# Altium schematic symbol library CM4.SchLib: 61 symbols (part 1 of 2)
Pins are listed as number, name and electrical type; pins without a type are passive.

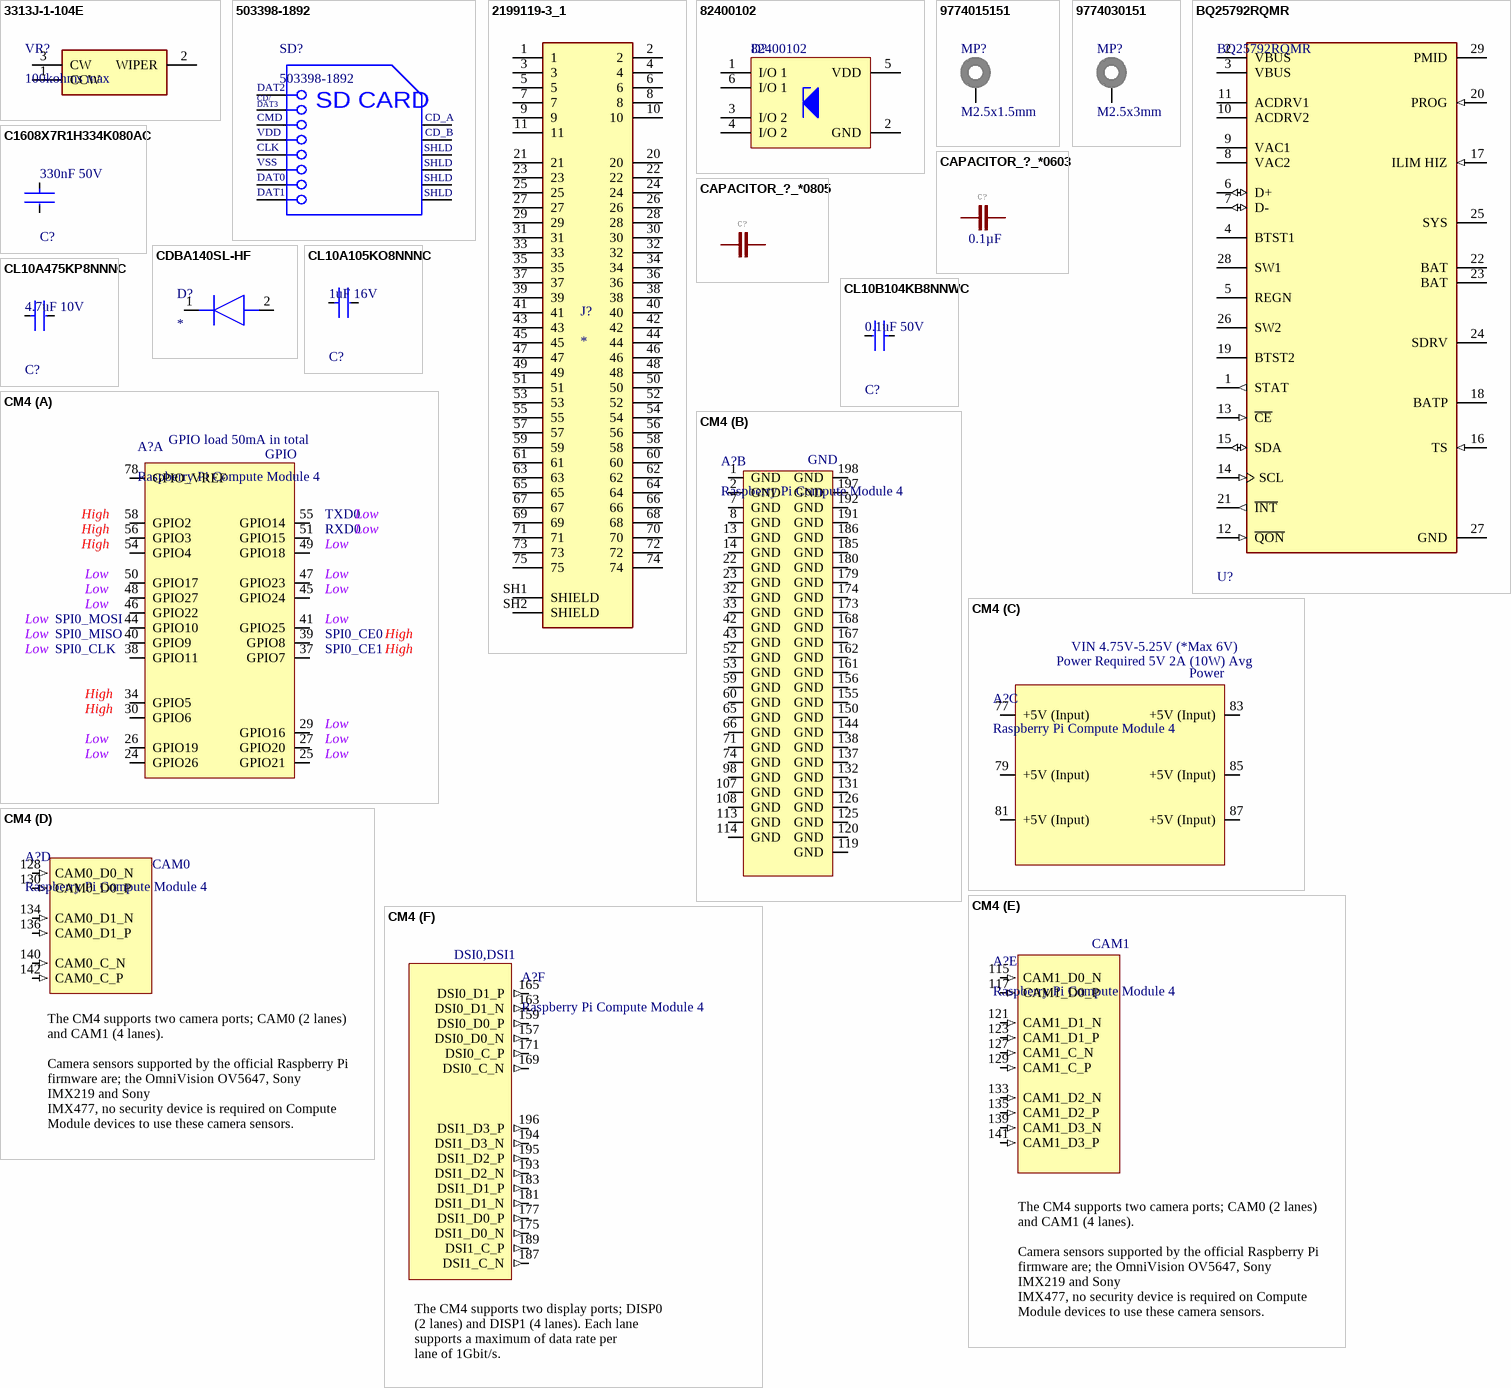
[diagram p0: symbols 3313J-1-104E to CM4]

## 3313J-1-104E
designator VR?, comment 100kohms max
TRIMMER 100K OHM 0.5W GW TOP ADJ; Manufacturer_Name: Bourns; Manufacturer_Part_Number: 3313J-1-104E; Datasheet Link: https://componentsearchengine.com/Datasheets/1/3313J-1-104E.pdf; Height: 2.2mm; Mouser Part Number: 652-3313J-1-104E; Mouser Price/Stock: https://www.mouser.co.uk/ProductDetail/Bourns/3313J-1-104E?qs=l1PtJIY2wTB7JQHwvfVVyQ%3D%3D; Arrow Part Number: 3313J-1-104E; Arrow Price/Stock: https://www.arrow.com/en/products/3313j-1-104e/bourns?region=nac
footprint 3313J1104E
pins: 1 CCW, 2 WIPER, 3 CW

## 503398-1892
designator SD?
Micro SD Connector, Pitch 1.1 mm, 8 Position, Height 1.4 mm, -25 to 85 degC, RoHS, Tape and Reel; Manufacturer: Molex; Voltage Rating: 10VAC/DC; Current Rating: 500mA; Manufacturer URL: http://www.molex.com/; Package Reference: 503398-1892; Packaging: Reel; RoHS: Details; Brand: Molex; Datasheet URL: http://www.molex.com/pdm_docs/sd/5033981892_sd.pdf; Mounting Technology: SurfaceMount; Factory Pack Quantity: 2400; Datasheet Version: Rev. E, 04/2006; Series: 503398; Product Category: MemoryCardConnectors; Package Description: Micro SD Connector, Pitch 1.1 mm, 8 Position, Height 1.4 mm
footprint MOLX-503398-1892_V (CONN, 8-Leads, Body 14.05x13.2mm, Pitch 1.1mm)
pins: 1 DAT2, 2 CD/DAT3, 3 CMD, 4 VDD, 5 CLK, 6 VSS, 7 DAT0, 8 DAT1, 9 CD_A, 10 CD_B, 11 SHLD, 12 SHLD, 13 SHLD, 14 SHLD
text: CD/; DAT3; SD CARD

## 2199119-3_1
designator J?
Connector, Backplane, Housing, Receptacle, 67 Position, 2row; MP: 2199119-3; MF: TE Connectivity; Check_prices: https://www.snapeda.com/parts/2199119-3/TE+Connectivity+AMP+Connectors/view-part/?ref=eda; Value: *; Purchase-URL: https://pricing.snapeda.com/search/part/2199119-3/?ref=eda; SnapEDA_Link: https://www.snapeda.com/parts/2199119-3/TE+Connectivity+AMP+Connectors/view-part/?ref=snap; Package: None; Digi-Key_Part_Number: A115899TR-ND; EU_RoHS_Compliance: Compliant
footprint TE_2199119-3
pins: 1, 2, 3, 4, 5, 6, 7, 8, 9, 10, 11, 20, 21, 22, 23, 24, 25, 26, 27, 28, 29, 30, 31, 32, 33, 34, 35, 36, 37, 38, 39, 40, 41, 42, 43, 44, 45, 46, 47, 48, 49, 50, 51, 52, 53, 54, 55, 56, 57, 58, 59, 60, 61, 62, 63, 64, 65, 66, 67, 68, 69, 70, 71, 72, 73, 74, 75, SH1 SHIELD, SH2 SHIELD

## 82400102
designator D?
TVS DIODE 5VWM 7.7VC SOT23-6L; NexarPartId: 22862942; MFR: Würth Elektronik; Max Reverse Leakage Current: 5A; Test Current: 1mA; Number of Channels: 2; Leakage Current: 5µA; Min Breakdown Voltage: 6V; Working Voltage: 5V; Direction: Unidirectional; Max Surge Current: 6A; Element Configuration: Dual; ESD Protection: Yes; Capacitance: 2pF; Forward Voltage: 800mV; Polarity: Bidirectional; Clamping Voltage: 7.7V; RoHS: Compliant; Number of Bidirectional Channels: 2; Mount: Surface Mount; Number of Pins: 6; Case/Package: SOT-23; Length: 2.9mm; Min Operating Temperature: -55°C; REACH SVHC: Unknown; Max Operating Temperature: 125°C; Max Breakdown Voltage: 6V; Reverse Standoff Voltage: 5V; Width: 2.8mm; Breakdown Voltage: 6V; Height: 1.16mm; Termination: SMD/SMT; Power Line Protection: Yes; Operating Supply Voltage: 6V; Packaging: Digi-Reel®; Peak Pulse Current: 6A; MPN: 82400102
footprint WE-TVS_SOT23-6L (TVS Diode, package SOT23-6L)
pins: 1 I/O 1, 2 GND, 3 I/O 2, 4 I/O 2, 5 VDD, 6 I/O 1

## 9774015151
designator MP?, comment M2.5x1.5mm
WA-SMSI SMT Steel Spacer, M2.5 Thread Internal, OD 5.1mm, M2.5x1.5mm; Manufacturer Part Number: 9774015151; Manufacturer: Wurth Elektronik; Inner Diameter: 3.5mm; Surface: Tin; ComponentLink1Description: Manufacturer; ComponentLink1URL: http://www.we-online.de; ComponentLink2Description: Datasheet; ComponentLink2URL: https://www.we-online.com/catalog/datasheet/9774015151.pdf; Mounting Technology: SMT; Packaging: Bulk; Length: 1.5mm; Inner Thread Length: -; Operating Temperature: -55 to +150degC; Outer Diameter: 5.1mm; Published Date: April 2020; Material: Steel; Thread: M2.5
footprint 9774015151 (SMT Steel Spacer with internal Thread M2.5, height 1.5mm)
pins: 1

## 9774030151
designator MP?, comment M2.5x3mm
WA-SMSI SMT Steel Spacer, M2.5 Thread Internal, OD 5.1mm, M2.5x3mm; Manufacturer Part Number: 9774030151; Manufacturer: Wurth Elektronik; Inner Diameter: 3.5mm; Surface: Tin; ComponentLink1Description: Manufacturer; ComponentLink1URL: http://www.we-online.de; ComponentLink2Description: Datasheet; ComponentLink2URL: https://www.we-online.com/catalog/datasheet/9774030151.pdf; Mounting Technology: SMT; Packaging: Bulk; Length: 3mm; Inner Thread Length: -; Operating Temperature: -55 to +150degC; Outer Diameter: 5.1mm; Published Date: April 2020; Material: Steel; Thread: M2.5
footprint 9774030151 (SMT Steel Spacer with internal Thread M2.5, height 3mm)
pins: 1

## BQ25792RQMR
designator U?
Power Supply Management Circuit, Adjustable, 1 Channel, 3.4, PQCC29; Manufacturer: Texas Instruments; RoHS Compliant: Yes; Supplier: Mouser; Supplier Part Number: 595-BQ25792RQMR; RoHS: Yes; Category: Battery Management; Stock: 1625; Pricing: 1=6.18, 10=5.59, 25=5.33, 50=5.33, 100=4.62, 250=4.42, 500=4.03, 1000=3.51, 3000=3.32, 6000=3.31, 10000=3.32 (USD); Manufacturer Part Number: BQ25792RQMR
footprint FP-RQM0029A-MFG
pins: 1 STAT (out), 2 VBUS (power), 3 VBUS (power), 4 BTST1 (power), 5 REGN (power), 6 D+ (io), 7 D- (io), 8 VAC2 (power), 9 VAC1 (power), 10 ACDRV2 (power), 11 ACDRV1 (power), 12 ~{QON} (in), 13 ~{CE} (in), 14 SCL (in), 15 SDA (io), 16 TS (in), 17 ILIM HIZ (in), 18 BATP (power), 19 BTST2 (power), 20 PROG (in), 21 ~{INT} (out), 22 BAT (power), 23 BAT (power), 24 SDRV (power), 25 SYS (power), 26 SW2 (power), 27 GND (power), 28 SW1 (power), 29 PMID (power)

## C1608X7R1H334K080AC
designator C?, comment 330nF 50V
CAP CER 0.33UF 50V X7R 0603; MPN: C1608X7R1H334K080AC; MFR: TDK Corporation; Tolerance: 10%; Dielectric Material: Ceramic; Capacitance: 330nF; Case Code (Imperial): 0603; Case Code (Metric): 1608; Dielectric: X7R; Length: 1.6mm; Construction: Flat; Resistor Type: Ceramic; Mount: Surface Mount; Voltage Rating: 50V; Packaging: Tape and Reel; Series: C; Case/Package: 0603; Lead Free: Lead Free; Voltage: 50V; REACH SVHC: No SVHC; Height: 0.8mm; Weight: 7.1E-05oz; Termination: SMD/SMT; Max Operating Temperature: 125°C; RoHS Compliant: Yes; Min Operating Temperature: -55°C; Depth: 0.8mm; Package Quantity: 1; Thickness: 0.037inch; Voltage Rating (DC): 50V; Width: 0.031inch
footprint CAPACITOR_0603 (Chip Capacitor, 2-Leads, Body 1.60x0.80mm, IPC Medium Density)
pins: 1, 2

## CAPACITOR_?_*0603
designator C?, comment CAPACITANCE: 0.1µF  (hidden comment: Capacitor, Non-Polarized  VJ...1BC Series Datasheet  Samsung Datasheet  Walsin Datasheet  GRM188R61A226ME15D  GRM188R61E106MA73D  885012006013  2220Y6300105KXTWS2  Yageo Class 2, X5R  TDK C Series  AVX Automotive MLCC   KEMET X7R Series  Kyocera AVX  GRM21BR61H  C1812W104KDRACTU)
MPN: CC0603KRX7R0BB104; GateName_1: G$1; DeviceName: 0603; DeviceSetName: CAPACITOR_?_*; DKPN: 311-1523-1-ND; MOPN: 603-CC603KRX7R0BB104; TOLERANCE: 10%; VOLTAGE: 100V; SymbolName_1: CAPACITOR; LibraryName: HyTechDevices; Package: 0603-CAP; MANUFACTURER: Yageo
footprint CAPACITOR_0603 (Chip Capacitor, 2-Leads, Body 1.60x0.80mm, IPC Medium Density)
pins: 1, 2

## CAPACITOR_?_*0805
designator C?, comment Capacitor, Non-Polarized  VJ...1BC Series Datasheet  Samsung Datasheet  Walsin Datasheet  GRM188R61A226ME15D  GRM188R61E106MA73D  885012006013  2220Y6300105KXTWS2  Yageo Class 2, X5R  TDK C Series  AVX Automotive MLCC   KEMET X7R Series  Kyocera AVX  GRM21BR61H  C1812W104KDRACTU  (value not drawn)
MPN: C0805C224K1RACTU; MPN: CC0805MKX5R8BB226; MANUFACTURER: Murata; MPN: GRM21BR61H106KE43L; GateName_1: G$1; DeviceName: 0805; DeviceSetName: CAPACITOR_?_*; CAPACITANCE: 0.22µF; DKPN: 399-8049-1-ND; MOPN: 80-C0805C224K1R; TOLERANCE: 10%; VOLTAGE: 100V; CAPACITANCE: 22µF; DKPN: 311-1903-1-ND; MOPN: 603-CC805MKX5R8BB226; TOLERANCE: 20%; VOLTAGE: 25V; CAPACITANCE: 10uF; DKPN: 490-18663-2-ND; MOPN: 81-GRM21BR61H106KE3L; VOLTAGE: 50V; SymbolName_1: CAPACITOR; LibraryName: HyTechDevices; Package: 0805-CAP; MANUFACTURER: KEMET; MANUFACTURER: Yageo
footprint 0805-CAP
pins: 1, 2

## CDBA140SL-HF
designator D?
DIODE SCHOTTKY 40V 1.4A DO214AC; Manufacturer_Name: Comchip Technology; Manufacturer_Part_Number: CDBA140SL-HF; Datasheet Link: http://www.mouser.com/ds/2/80/CDBA140SL-HF RevC729463-766397.pdf; Height: 2.5mm; Mouser Part Number: 750-CDBA140SL-HF; Mouser Price/Stock: https://www.mouser.co.uk/ProductDetail/Comchip-Technology/CDBA140SL-HF?qs=2qJf6qQ4IOIs6CdtgpGzGA%3D%3D; Arrow Part Number: CDBA140SL-HF; Arrow Price/Stock: https://www.arrow.com/en/products/cdba140sl-hf/comchip-technology
footprint DIOM5225X250N
pins: 1 K, 2 A

## CL10A105KO8NNNC
designator C?, comment 1uF 16V
CAP CER 1UF 16V X5R 0603; MFR: Samsung Electro-Mechanics; MPN: CL10A105KO8NNNC
footprint CAPACITOR_0603 (Chip Capacitor, 2-Leads, Body 1.60x0.80mm, IPC Medium Density)
pins: 1, 2

## CL10A475KP8NNNC
designator C?, comment 4.7uF 10V
CAP CER 4.7UF 10V X5R 0603; MPN: CL10A475KP8NNNC; MFR: Samsung Electro-Mechanics
footprint CAPACITOR_0603 (Chip Capacitor, 2-Leads, Body 1.60x0.80mm, IPC Medium Density)
pins: 1, 2

## CL10B104KB8NNWC
designator C?, comment 0.1uF 50V
CAP CER 0.1UF 50V X7R 0603; MFR: Samsung Electro-Mechanics; MPN: CL10B104KB8NNWC
footprint CAPACITOR_0603 (Chip Capacitor, 2-Leads, Body 1.60x0.80mm, IPC Medium Density)
pins: 1, 2

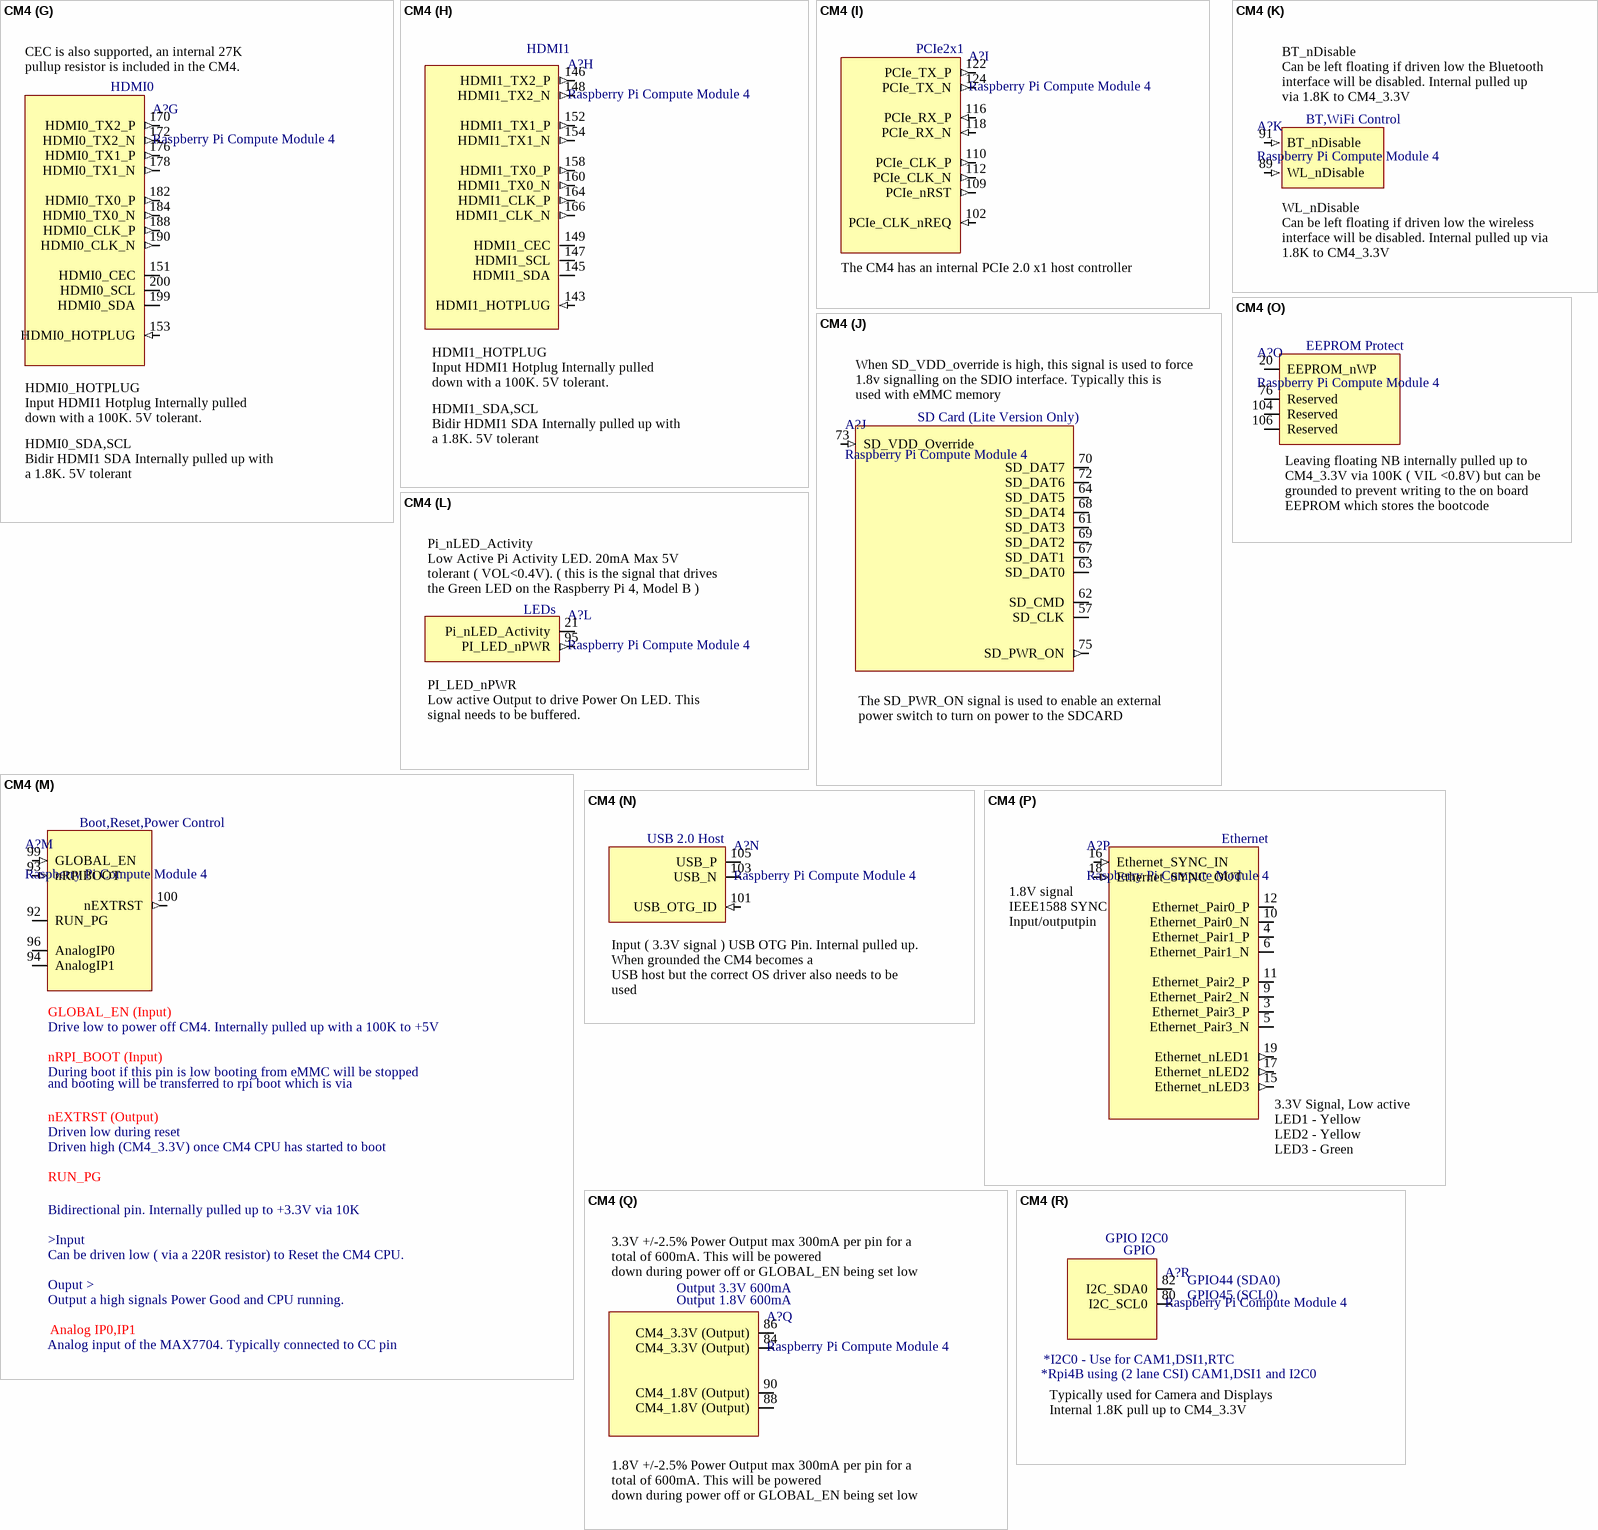
[diagram p1: symbol CM4]

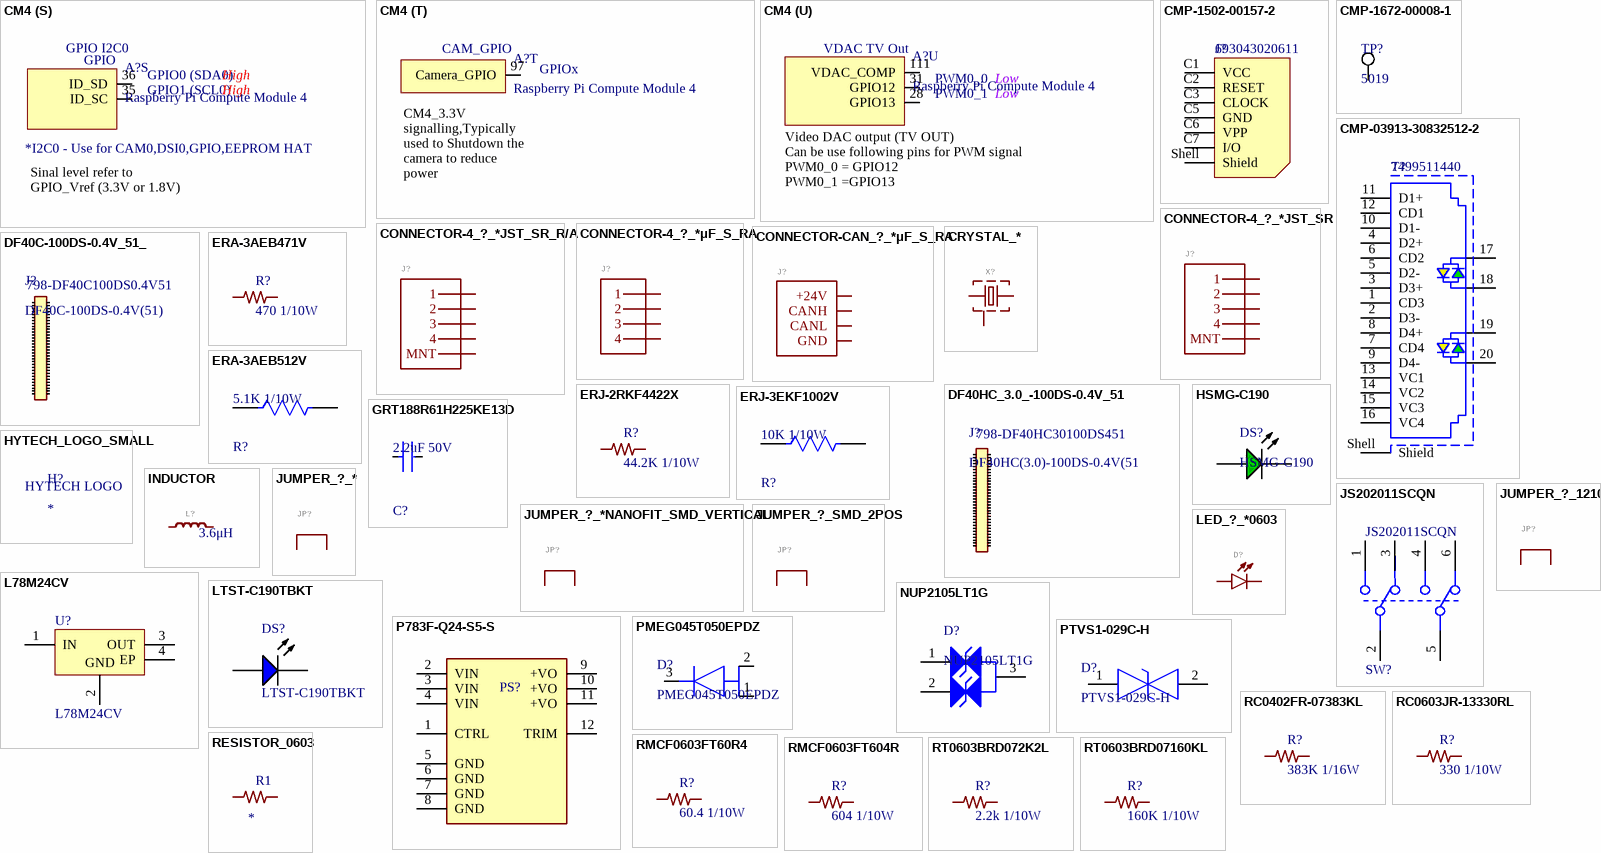
[diagram p2: symbols CM4 to RT0603BRD07160KL]

## CM4
designator A?, comment Raspberry Pi Compute Module 4  (no BOM)
Raspberry Pi Compute Module 4 by Amornthep Phunsin
footprint CM4-F40C-100DS-0.4v_1.5mm_0mm (DF40C-100DS-0.4v by Amornthep Phunsin)
footprint CM4-DF40HC(3.0)-100DS-0.4v_3mm_1.5mm (DF40HC(3.0)-100DS-0.4v)
part A pins: 24 GPIO26 "Pin37", 25 GPIO21 "Pin40", 26 GPIO19 "Pin35", 27 GPIO20 "Pin38", 29 GPIO16 "Pin36", 30 GPIO6 "Pin31", 34 GPIO5 "Pin29", 37 GPIO7 "Pin26 SPI0_CE1", 38 GPIO11 "Pin23 SPI0_CLK", 39 GPIO8 "Pin24 SPI0_CE0", 40 GPIO9 "Pin21 SPI0_MISO", 41 GPIO25 "Pin22", 44 GPIO10 "Pin19 SPI0_MOSI", 45 GPIO24 "Pin18", 46 GPIO22 "Pin15", 47 GPIO23 "Pin16", 48 GPIO27 "Pin13", 49 GPIO18 "Pin12", 50 GPIO17 "Pin11", 51 GPIO15 "Pin10 RXD0", 54 GPIO4 "Pin7 GPCLK0", 55 GPIO14 "Pin8 TXD0", 56 GPIO3 "Pin5 SCL1 Internal 1.8K pull up", 58 GPIO2 "Pin3 SDA1 Internal 1.8K pull up", 78 GPIO_VREF (power) "Must be connected to CM4_3.3V ( pins 84 and 86 ) for 3.3V GPIO or CM4_1.8V ( pins 88 and 90) for 1.8V GPIO. This pin cannot be floating or connected to ground"
part B pins: 1 GND (power) "Ground (0V)", 2 GND (power) "Ground (0V)", 7 GND (power) "Ground (0V)", 8 GND (power) "Ground (0V)", 13 GND (power) "Ground (0V)", 14 GND (power) "Ground (0V)", 22 GND (power) "Ground (0V)", 23 GND (power) "Ground (0V)", 32 GND (power) "Ground (0V)", 33 GND (power) "Ground (0V)", 42 GND (power) "Ground (0V)", 43 GND (power) "Ground (0V)", 52 GND (power) "Ground (0V)", 53 GND (power) "Ground (0V)", 59 GND (power) "Ground (0V)", 60 GND (power) "Ground (0V)", 65 GND (power) "Ground (0V)", 66 GND (power) "Ground (0V)", 71 GND (power) "Ground (0V)", 74 GND (power) "Ground (0V)", 98 GND (power) "Ground (0V)", 107 GND (power) "Ground (0V)", 108 GND (power) "Ground (0V)", 113 GND (power) "Ground (0V)", 114 GND (power) "Ground (0V)", 119 GND (power) "Ground (0V)", 120 GND (power) "Ground (0V)", 125 GND (power) "Ground (0V)", 126 GND (power) "Ground (0V)", 131 GND (power) "Ground (0V)", 132 GND (power) "Ground (0V)", 137 GND (power) "Ground (0V)", 138 GND (power) "Ground (0V)", 144 GND (power) "Ground (0V)", 150 GND (power) "Ground (0V)", 155 GND (power) "Ground (0V)", 156 GND (power) "Ground (0V)", 161 GND (power) "Ground (0V)", 162 GND (power) "Ground (0V)", 167 GND (power) "Ground (0V)", 168 GND (power) "Ground (0V)", 173 GND (power) "Ground (0V)", 174 GND (power) "Ground (0V)", 179 GND (power) "Ground (0V)", 180 GND (power) "Ground (0V)", 185 GND (power) "Ground (0V)", 186 GND (power) "Ground (0V)", 191 GND (power) "Ground (0V)", 192 GND (power) "Ground (0V)", 197 GND (power) "Ground (0V)", 198 GND (power) "Ground (0V)"
part C pins: 77 +5V (Input) (power) "4.75V-5.25V Main power input", 79 +5V (Input) (power) "4.75V-5.25V Main power input", 81 +5V (Input) (power) "4.75V-5.25V Main power input", 83 +5V (Input) (power) "4.75V-5.25V Main power input", 85 +5V (Input) (power) "4.75V-5.25V Main power input", 87 +5V (Input) (power) "4.75V-5.25V Main power input"
part D pins: 128 CAM0_D0_N (in) "Input Camera0 D0 Negative", 130 CAM0_D0_P (in) "Input Camera0 D0 Positive", 134 CAM0_D1_N (in) "Input Camera0 D1 Negative", 136 CAM0_D1_P (in) "Input Camera0 D1 Positive", 140 CAM0_C_N (in) "Input Camera0 Clock Negative", 142 CAM0_C_P (in) "Input Camera0 Clock Positive"
part E pins: 115 CAM1_D0_N (in) "Input Camera1 D0 Negative", 117 CAM1_D0_P (in) "Input Camera1 D0 Positive", 121 CAM1_D1_N (in) "Input Camera1 D1 Negative", 123 CAM1_D1_P (in) "Input Camera1 D1 Positive", 127 CAM1_C_N (in) "Input Camera1 Clock Negative", 129 CAM1_C_P (in) "Input Camera1 Clock Positive", 133 CAM1_D2_N (in) "Input Camera1 D2 Negative", 135 CAM1_D2_P (in) "Input Camera1 D2 Positive", 139 CAM1_D3_N (in) "Input Camera1 D3 Negative", 141 CAM1_D3_P (in) "Input Camera1 D3 Positive"
part F pins: 157 DSI0_D0_N (out) "Output Display0 D0 Negative", 159 DSI0_D0_P (out) "Output Display0 D0 Positive", 163 DSI0_D1_N (out) "Output Display0 D1 Negative", 165 DSI0_D1_P (out) "Output Display0 D1 Positive", 169 DSI0_C_N (out) "Output Display0 Clock Negative", 171 DSI0_C_P (out) "Output Display0 Clock Positive", 175 DSI1_D0_N (out) "Output Display1 D0 Negative", 177 DSI1_D0_P (out) "Output Display1 D0 Positive", 181 DSI1_D1_N (out) "Output Display1 D1 Negative", 183 DSI1_D1_P (out) "Output Display1 D1 Positive", 187 DSI1_C_N (out) "Output Display1 Clock Negative", 189 DSI1_C_P (out) "Output Display1 Clock Positive", 193 DSI1_D2_N (out) "Output Display1 D2 Negative", 194 DSI1_D3_N (out) "Output Display1 D3 Negative", 195 DSI1_D2_P (out) "Output Display1 D2 Positive", 196 DSI1_D3_P (out) "Output Display1 D3 Positive"
part G pins: 151 HDMI0_CEC (oc) "Input HDMI0 CEC Internally pulled up with a 27K. 5V tolerant (It can be connected directly to a HDMI connector a small amount of ESD protection is provided on the CM4 by an on board HDMI05-CL02F3)", 153 HDMI0_HOTPLUG (in) "Input HDMI0 Hotplug Internally pulled down 100K. 5V tolerant. (It can be connected directly to a HDMI connector a small amount of ESD protection is provided on the CM4 by an on board HDMI05-CL02F3)", 170 HDMI0_TX2_P (out) "Output HDMI0 TX2 Positive", 172 HDMI0_TX2_N (out) "Output HDMI0 TX2 Negative", 176 HDMI0_TX1_P (out) "Output HDMI0 TX1 Positive", 178 HDMI0_TX1_N (out) "Output HDMI0 TX1 Negative", 182 HDMI0_TX0_P (out) "Output HDMI0 TX0 Positive", 184 HDMI0_TX0_N (out) "Output HDMI0 TX0 Negative", 188 HDMI0_CLK_P (out) "Output HDMI0 Clock Positive", 190 HDMI0_CLK_N (out) "Output HDMI0 Clock Negative", 199 HDMI0_SDA (io) "Bidir HDMI0 SDA Internally pulled up with a 1.8K. 5V tolerant. (It can be connected directly to a HDMI connector a small amount of ESD protection is provided on the CM4 by an on board HDMI05-CL02F3)", 200 HDMI0_SCL (oc) "Bidir HDMI0 SCL Internally pulled up with a 1.8K. 5V tolerant. (It can be connected directly to a HDMI connector a small amount of ESD protection is provided on the CM4 by an on board HDMI05-CL02F3)"
part H pins: 143 HDMI1_HOTPLUG (in) "Input HDMI1 Hotplug Internally pulled down with a 100K. 5V tolerant. (It can be connected directly to a HDMI connector a small amount of ESD protection is provided on the CM4 by an on board HDMI05-CL02F3)", 145 HDMI1_SDA (io) "Bidir HDMI1 SDA Internally pulled up with a 1.8K. 5V tolerant. (It can be connected directly to a HDMI connector a small amount of ESD protection is provided on the CM4 by an on board HDMI05-CL02F3)", 146 HDMI1_TX2_P (out) "Output HDMI1 TX2 Positive", 147 HDMI1_SCL (oc) "Input HDMI1 SCL Internally pulled up with a 1.8K. 5V tolerant. (It can be connected directly to a HDMI connector a small amount of ESD protection is provided on the CM4 by an on board HDMI05-CL02F3)", 148 HDMI1_TX2_N (out) "Output HDMI1 TX2 Negative", 149 HDMI1_CEC (oc) "Input HDMI1 CEC Internally pulled up with a 27K. 5V tolerant. (It can be connected directly to a HDMI connector a small amount of ESD protection is provided on the CM4 by an on board HDMI05-CL02F3)", 152 HDMI1_TX1_P (out) "Output HDMI1 TX1 Positive", 154 HDMI1_TX1_N (out) "Output HDMI1 TX1 Negative", 158 HDMI1_TX0_P (out) "Output HDMI1 TX0 Positive", 160 HDMI1_TX0_N (out) "Output HDMI1 TX0 Negative", 164 HDMI1_CLK_P (out) "Output HDMI1 Clock Positive", 166 HDMI1_CLK_N (out) "Output HDMI1 Clock Negative"
part I pins: 102 PCIe_CLK_nREQ (in) "Input ( 3.3V signal) PCIe Clock request pin (low to request PCI clock). Internal pulled up", 109 PCIe_nRST (out) "Output (+3.3V signal) PCIe Reset Low active", 110 PCIe_CLK_P (out) "PCIe Clock Out Positive (100MHz) NB AC coupling Capacitor Included on CM4", 112 PCIe_CLK_N (out) "PCIe Clock Out Negative (100MHz) NB AC coupling Capacitor Included on CM4", 116 PCIe_RX_P (in) "Input PCIe GEN 2 RX Positive NB External AC coupling Capacitor required", 118 PCIe_RX_N (in) "Input PCIe GEN 2 RX Negative NB External AC coupling Capacitor required", 122 PCIe_TX_P (out) "Output PCIe GEN 2 TX Positive NB AC coupling Capacitor Included on CM4", 124 PCIe_TX_N (out) "Output PCIe GEN 2 TX Positive NB AC coupling Capacitor Included on CM4"
part J pins: 57 SD_CLK "SDCARD Clock signal (only available on CM4Lite)", 61 SD_DAT3 "SDCARD/eMMC Data3 signal (only available on CM4Lite)", 62 SD_CMD "SDCARD/eMMC Command signal (only available on CM4Lite)", 63 SD_DAT0 "SDCARD/eMMC Data0 signal (only available on CM4Lite)", 64 SD_DAT5 "SDCARD/eMMC Data5 signal (only available on CM4Lite)", 67 SD_DAT1 "SDCARD/eMMC Data1 signal (only available on CM4Lite)", 68 SD_DAT4 "SDCARD/eMMC Data4 signal (only available on CM4Lite)", 69 SD_DAT2 "SDCARD/eMMC Data2 signal (only available on CM4Lite)", 70 SD_DAT7 "SDCARD/eMMC Data7 signal (only available on CM4Lite)", 72 SD_DAT6 "SDCARD/eMMC Data6 signal (only available on CM4Lite)", 73 SD_VDD_Override (in) "Force SDCARD/eMMC interface to 1.8V signalling if set to 3.3V, otherwise leave unconnected. Typically only used if external eMMC is connected", 75 SD_PWR_ON (out) "Output to Power switch for SDCARD. CM4 sets this pin High (3.3V) to signal that Power to the SDCARD should be turned on. If booting from the SDCARD is required then a pullup should be fitted (only available on CM4Lite)"
part K pins: 89 WL_nDisable (in) "Can be left floating if driven low the wireless interface will be disabled. Internal pulled up via 1.8K to CM4_3.3V", 91 BT_nDisable (in) "Can be left floating if driven low the Bluetooth interface will be disabled. Internal pulled up via 1.8K to CM4_3.3V"
part L pins: 21 Pi_nLED_Activity (oc) "Low Active Pi Activity LED. 20mA Max 5V tolerant ( VOL<0.4V). ( this is the signal that drives the Green LED on the Raspberry Pi 4, Model B )", 95 PI_LED_nPWR (out) "Low active Output to drive Power On LED. This signal needs to be buffered."
part M pins: 92 RUN_PG "Bidirectional pin. Can be driven low ( via a 220R resistor) to Reset the CM4 CPU. As an Output a high signals Power Good and CPU running. Internally pulled up to +3.3V via 10K", 93 nRPIBOOT (in) "A low on this pin force booting from an RPI server ( e.g PC or a Raspberry Pi)  if not used leave floating. Internally pulled via 10K to +3.3V", 94 AnalogIP1 "Analogue input of the MAX7704. Typically connected to CC pin of Type C power connector", 96 AnalogIP0 "Analogue input of the MAX7704. Typically connected to CC pin of Type C power connector", 99 GLOBAL_EN (in) "Input. Drive low to power off CM4. Internally pulled up with a 100K to +5V", 100 nEXTRST (out) "Output Driven low during reset Driven high (CM4_3.3V) once CM4 CPU has started to boot"
part N pins: 101 USB_OTG_ID (in) "Input ( 3.3V signal ) USB OTG Pin. Internal pulled up. When grounded the CM4 becomes a USB host but the correct OS driver also needs to be used", 103 USB_N "USB D-", 105 USB_P "USB D+"
part O pins: 20 EEPROM_nWP "Leaving floating NB internally pulled up to CM4_3.3V via 100K ( VIL <0.8V) but can be grounded to prevent writing to the on board EEPROM which stores the bootcode", 76 Reserved "Do not Connect anything to this pin.", 104 Reserved "Do not Connect anything to this pin.", 106 Reserved "Do not Connect anything to this pin."
part P pins: 3 Ethernet_Pair3_P "Ethernet Pair 3 Positive ( connect to Transformer or MagJack)", 4 Ethernet_Pair1_P "Ethernet Pair 1 Positive ( connect to Transformer or MagJack)", 5 Ethernet_Pair3_N "Ethernet Pair 3 Negative ( connect to Transformer or MagJack)", 6 Ethernet_Pair1_N "Ethernet Pair 1 Negative ( connect to Transformer or MagJack)", 9 Ethernet_Pair2_N "Ethernet Pair 2 Negative ( connect to Transformer or MagJack)", 10 Ethernet_Pair0_N "Ethernet Pair 0 Negative ( connect to Transformer or MagJack)", 11 Ethernet_Pair2_P "Ethernet Pair 2 Positive ( connect to Transformer or MagJack)", 12 Ethernet_Pair0_P "Ethernet Pair 0 Positive ( connect to Transformer or MagJack)", 15 Ethernet_nLED3 (out) "Low Active Ethernet Activity indicator ( 3.3V signal) Typically a Green LED is connected to this pin: IOL = 8mA @ VOL< 0.4V", 16 Ethernet_SYNC_IN (in) "IEEE1588 SYNC Input pin ( 1.8V signal : IOL = 8mA @ VOL< 0.4V )", 17 Ethernet_nLED2 (out) "Low Active Ethernet speed indicator ( 3.3V signal) Typically a Yellow LED is connected to this pin. A low State indicates the 1Gbit or 100Mbit Link : IOL = 8mA @ VOL< 0.4V", 18 Ethernet_SYNC_OUT (in) "IEEE1588 SYNC Output pin ( 1.8V signal : IOL = 8mA @ VOL< 0.4V )", 19 Ethernet_nLED1 (out) "Low Active Ethernet speed indicator ( 3.3V signal) Typically a Yellow LED is connected to this pin. A low State indicates the 1Gbit or 10Mbit Link : IOL = 8mA @ VOL< 0.4V"
part Q pins: 84 CM4_3.3V (Output) (power) "3.3V +/-2.5% Power Output max 300mA per pin for a total of 600mA. This will be powered down during power off or GLOBAL_EN being set low", 86 CM4_3.3V (Output) (power) "3.3V +/-2.5% Power Output max 300mA per pin for a total of 600mA. This will be powered down during power off or GLOBAL_EN being set low", 88 CM4_1.8V (Output) (power) "1.8V +/-2.5% Power Output max 300mA per pin for a total of 600mA. This will be powered down during power off or GLOBAL_EN being set low", 90 CM4_1.8V (Output) (power) "1.8V +/-2.5% Power Output max 300mA per pin for a total of 600mA. This will be powered down during power off or GLOBAL_EN being set low"
part R pins: 80 I2C_SCL0 "IIC Clock pin ( Raspberry Pi GPIO45) Typically used for Camera and Displays Internal 1.8K pull up to CM4_3.3V", 82 I2C_SDA0 "IIC Data pin ( Raspberry Pi GPIO44 ) Typically used for Camera and Displays Internal 1.8K pull up to CM4_3.3V"
part S pins: 35 ID_SC "Pin28 GPIO1 SCL0", 36 ID_SD "Pin27 GPIO0 SDA0"
part T pins: 97 Camera_GPIO "Typically used to Shutdown the camera to reduce power. Reassigning this pin to another function isn’t recommended. CM4_3.3V signalling"
part U pins: 28 GPIO13 "Pin33 PWM1", 31 GPIO12 "Pin32 PWM0", 111 VDAC_COMP "Video DAC output (TV OUT)"
part A text: GPIO load 50mA in total; GPIO; High; TXD0; Low; RXD0; SPI0_MOSI; SPI0_MISO; SPI0_CE0; SPI0_CLK; SPI0_CE1; by Amornthep Phunsin
part C text: VIN 4.75V-5.25V (*Max 6V); Power Required 5V 2A (10W) Avg; Power; by Amornthep Phunsin
part D text: CAM0; The CM4 supports two camera ports; CAM0 (2 lanes) and CAM1 (4 lanes). / Camera sensors supported by the official Raspberry Pi firmware are; the OmniVision OV5647, Sony IMX219 and Sony / IMX477, no security device is required on Compute Module devices to use these camera sensors.
part E text: CAM1; The CM4 supports two camera ports; CAM0 (2 lanes) and CAM1 (4 lanes). / Camera sensors supported by the official Raspberry Pi firmware are; the OmniVision OV5647, Sony IMX219 and Sony / IMX477, no security device is required on Compute Module devices to use these camera sensors.
part F text: DSI0,DSI1; The CM4 supports two display ports; DISP0 (2 lanes) and DISP1 (4 lanes). Each lane supports a maximum of data rate per / lane of 1Gbit/s.
part G text: HDMI0; CEC is also supported, an internal 27K pullup resistor is included in the CM4.; HDMI0_HOTPLUG / Input HDMI1 Hotplug Internally pulled down with a 100K. 5V tolerant.; HDMI0_SDA,SCL / Bidir HDMI1 SDA Internally pulled up with a 1.8K. 5V tolerant
part H text: HDMI1; HDMI1_HOTPLUG / Input HDMI1 Hotplug Internally pulled down with a 100K. 5V tolerant.; HDMI1_SDA,SCL / Bidir HDMI1 SDA Internally pulled up with a 1.8K. 5V tolerant
part I text: PCIe2x1; The CM4 has an internal PCIe 2.0 x1 host controller
part J text: When SD_VDD_override is high, this signal is used to force 1.8v signalling on the SDIO interface. Typically this is / used with eMMC memory; SD Card (Lite Version Only); by Amornthep Phunsin; The SD_PWR_ON signal is used to enable an external power switch to turn on power to the SDCARD
part K text: BT_nDisable / Can be left floating if driven low the Bluetooth interface will be disabled. Internal pulled up / via 1.8K to CM4_3.3V; BT,WiFi Control; WL_nDisable / Can be left floating if driven low the wireless interface will be disabled. Internal pulled up via / 1.8K to CM4_3.3V
part L text: Pi_nLED_Activity / Low Active Pi Activity LED. 20mA Max 5V tolerant ( VOL<0.4V). ( this is the signal that drives / the Green LED on the Raspberry Pi 4, Model B ); LEDs; PI_LED_nPWR / Low active Output to drive Power On LED. This signal needs to be buffered.
part M text: Boot,Reset,Power Control; GLOBAL_EN (Input); Drive low to power off CM4. Internally pulled up with a 100K to +5V; nRPI_BOOT (Input); During boot if this pin is low booting from eMMC will be stopped; and booting will be transferred to rpi boot which is via; nEXTRST (Output); Driven low during reset; Driven high (CM4_3.3V) once CM4 CPU has started to boot; Bidirectional pin. Internally pulled up to +3.3V via 10K / >Input / Can be driven low ( via a 220R resistor) to Reset the CM4 CPU. / Ouput > / Output a high signals Power Good and CPU running.; Analog IP0,IP1; Analog input of the MAX7704. Typically connected to CC pin
part N text: USB 2.0 Host; Input ( 3.3V signal ) USB OTG Pin. Internal pulled up. When grounded the CM4 becomes a / USB host but the correct OS driver also needs to be used
part O text: EEPROM Protect; Leaving floating NB internally pulled up to CM4_3.3V via 100K ( VIL <0.8V) but can be / grounded to prevent writing to the on board EEPROM which stores the bootcode
part P text: Ethernet; 1.8V signal / IEEE1588 SYNC Input/outputpin; by Amornthep Phunsin; 3.3V Signal, Low active / LED1 - Yellow / LED2 - Yellow / LED3 - Green
part Q text: 3.3V +/-2.5% Power Output max 300mA per pin for a total of 600mA. This will be powered / down during power off or GLOBAL_EN being set low; Output 3.3V 600mA; Output 1.8V 600mA; 1.8V +/-2.5% Power Output max 300mA per pin for a total of 600mA. This will be powered / down during power off or GLOBAL_EN being set low
part R text: GPIO I2C0; GPIO; GPIO44 (SDA0); GPIO45 (SCL0); *I2C0 - Use for CAM1,DSI1,RTC; *Rpi4B using (2 lane CSI) CAM1,DSI1 and I2C0; Typically used for Camera and Displays Internal 1.8K pull up to CM4_3.3V
part S text: GPIO I2C0; GPIO; GPIO0 (SDA0); High; GPIO1 (SCL0); *I2C0 - Use for CAM0,DSI0,GPIO,EEPROM HAT; Sinal level refer to  GPIO_Vref (3.3V or 1.8V)
part T text: CAM_GPIO; GPIOx; CM4_3.3V signalling,Typically used to Shutdown the camera to reduce power
part U text: VDAC TV Out; PWM0_0; Low; PWM0_1; Video DAC output (TV OUT) / Can be use following pins for PWM signal / PWM0_0 = GPIO12 / PWM0_1 =GPIO13

## CMP-1502-00157-2
designator J?, comment 693043020611
NexarPartId: 52645179; Number of Positions: 6; Insulation Resistance: 500MΩ; Current Rating: 1A; Operating Supply Voltage: 15V; Connector Type: Connector; Number of Pins: 6; Min Operating Temperature: -25°C; Height: 1.3mm; RoHS: Compliant; Features: Shielded; Mount: Surface Mount; Voltage Rating: 15V; Contact Material: Gold; Contact Plating: Gold; REACH SVHC: Unknown; Lead Free: Lead Free; Number of Contacts: 6; Packaging: Tape and Reel; Max Operating Temperature: 85°C
footprint 693043020611 (Nano SIM Card Connector Push & Pull - 6 Pins)
pins: C1 VCC, C2 RESET, C3 CLOCK, C5 GND, C6 VPP, C7 I/O, Shell Shield

## CMP-1672-00008-1
designator TP?, comment 5019
Test Point, 1 Position SMD, RoHS, Tape and Reel; ComponentLink1Description: Manufacturer URL; Package Quantity: 1000; DatasheetVersion: 03/2014; Packaging: Tape and Reel; ComponentLink2URL: http://www.keyelco.com/product-pdf.cfm?p=1357; ComponentLink1URL: http://www.keyelco.com/; Mount: Surface Mount; Contact Plating: Silver; PackageDescription: 1-Pin Surface Mount Device, Body 3.81 x 2.03 mm; Pins: 1; RoHSCompliant: True; Mounting Technology: Surface Mount; ComponentLink2Description: Datasheet; PackageReference: 5019
footprint KSTN-5019_V (Test Point, 1-Leads, Body 3.81x2.03mm)
pins: 1

## CMP-03913-30832512-2
designator T?, comment 7499511440
Telecom and Datacom Connector; NexarPartId: 30832512; Manufacturer: Wurth Electronics; Color: Green, Yellow; Pitch: 2.54mm; Insertion Loss (dB): -1.2dB; Gender: Female; Shielding: Shielded; Number of Positions: 8; Inductance: 350µH; Connector Type: RJ45; Direction: Up; Number of Ports: 1; REACH SVHC: Unknown; Min Operating Temperature: -40°C; Mount: Through Hole; Housing Material: Thermoplastic; Termination: Through Hole; Number of Rows: 1; Lead Free: Lead Free; RoHS: Compliant; Flammability Rating: UL94 V-0; Width: 17mm; Height: 13.87mm; Number of Cores per Jack: 8; Max Operating Temperature: 85°C; Contact Plating: Gold; Number of Contacts: 8; Contact Material: Ferrite, Gold, Tin; Length: 33.02mm; Supplier: Digi-Key; Supplier Part Number: 732-4965-ND; Manufacturer Part Number: 7499511440; Category: Modular / Ethernet Connectors; Stock: 1682; Pricing: 1=14.96, 10=14.709, 50=13.659, 100=12.608, 500=11.55804 (USD); Contact Finish - Mating: GOLD (30); Contact Finish - Termination: TIN OVER NICKEL; JESD-609 Code: e3; Reach SVHC Compliant: No; RoHS Compliant: Yes; ComponentLink1URL: https://datasheet.ciiva.com:443/pdfs/VipMasterIC/IC/MIDC/MIDC-S-A0004025553/MIDC-S-A0004711821-1.pdf?src-supplier=IHS+Markit; ComponentLink1Description: https://datasheet.ciiva.com:443/pdfs/VipMasterIC/IC/MIDC/MIDC-S-A0004025553/MIDC-S-A0004711821-1.pdf?src-supplier=IHS+Markit; ComponentLink2URL: https://datasheet.ciiva.com/24091/7499511440-254189-24091260.pdf?src-supplier=Mouser; ComponentLink2Description: https://datasheet.ciiva.com/24091/7499511440-254189-24091260.pdf?src-supplier=Mouser; ComponentLink3URL: https://datasheet.ciiva.com/22749/1737251-22749408.pdf?src-supplier=Element14; ComponentLink3Description: https://datasheet.ciiva.com/22749/1737251-22749408.pdf?src-supplier=Element14; ComponentLink4URL: https://datasheet.ciiva.com/29167/7499511440-29167180.pdf?src-supplier=Digi-Key; ComponentLink4Description: https://datasheet.ciiva.com/29167/7499511440-29167180.pdf?src-supplier=Digi-Key
footprint 7499511440 (LAN Transformer, body 33.02x17mm)
pins: 1 CD3, 2 D3-, 3 D3+, 4 D2+, 5 D2-, 6 CD2, 7 CD4, 8 D4+, 9 D4-, 10 D1-, 11 D1+, 12 CD1, 13 VC1, 14 VC2, 15 VC3, 16 VC4, 17, 18, 19, 20, Shell Shield

## CONNECTOR-4_?_*JST_SR
designator J?, comment 4 Pin Connector  (value not drawn)
MANUFACTURER: JST; MPN: BM04B-SRSS-TB; GateName_1: G$1; SymbolName_1: CONNECTOR_04; DeviceName: JST_SR; DeviceSetName: CONNECTOR-4_?_*; DPKN: PRT-16766; LibraryName: HyTechDevices; Package: BM04B-SRSS-TB; MOPN: PRT-16766
footprint FP-BM04B-SRSS-TBT_LF_SN-MFG
pins: 0 MNT, 1, 2, 3, 4

## CONNECTOR-4_?_*JST_SR_R/A
designator J?, comment 4 Pin Connector  (value not drawn)
CONN HEADER SMD R/A 4POS 1MM; MANUFACTURER: JST; GateName_1: G$1; SymbolName_1: CONNECTOR_04; DeviceName: JST_SR; DeviceSetName: CONNECTOR-4_?_*; LibraryName: HyTechDevices; Package: SM04B-SRSS-TB
footprint JST_SM04B-SRSS-TB(LF)(SN)
pins: 0 MNT, 1, 2, 3, 4

## CONNECTOR-4_?_*μF_S_RA
designator J?, comment 4 Pin Connector  (value not drawn)
MANUFACTURER: Molex; MPN: 0430450411; GateName_1: G$1; SymbolName_1: CONNECTOR_04; DeviceName: μF_S_RA; DeviceSetName: CONNECTOR-4_?_*; DKPN: WM1832CT-ND; MOPN: 538-0430450411; LibraryName: HyTechDevices; Package: MOLEX_MICROFIT_SMD_RIGHTANGLE_04_DUAL
footprint 43045-04YY_09101192
pins: 1, 2, 3, 4

## CONNECTOR-CAN_?_*μF_S_RA
designator J?, comment HyTech CAN Connector  (value not drawn)
MANUFACTURER: Molex; MPN: 0430450411; GateName_1: G$1; SymbolName_1: CONNECTOR_CAN; DeviceName: μF_S_RA; DeviceSetName: CONNECTOR-CAN_?_*; DKPN: WM1832CT-ND; MOPN: 538-43045-0411; LibraryName: HyTechDevices; Package: MOLEX_MICROFIT_SMD_RIGHTANGLE_04_DUAL
footprint 43045-04YY_09101192
pins: 1 +24V (power), 2 GND (power), 3 CANL (io), 4 CANH (io)

## CRYSTAL_*
designator X?, comment Crystal  Datasheet Recommended load capacitor for the ECS-160-10-42-CKM-TR:  VJ0603A150FXQPW1BC  (value not drawn)
MANUFACTURER: TXC CORPORATION; GateName_1: G$1; DeviceSetName: CRYSTAL_*; DKPN: XC2566CT-ND; FREQUENCY: 16 MHz; LOAD_CAPACITANCE: 10pF; MOPN: 520-160-10-42-CKMT; SHUNT_CAPACITANCE: 2 - 5 pF; SymbolName_1: CRYSTAL; LibraryName: HyTechDevices; Package: ECX-42; MPN: ECS-160-10-42-CKM-TR
footprint XTAL_ECS-160-10-42-CKM-TR
pins: 1, 2,4 GND (power), 3

## DF40C-100DS-0.4V_51_
designator J?, comment DF40C-100DS-0.4V(51)  Supplier Part Number 1: 798-DF40C100DS0.4V51  (mechanical)
Conn Board to Board RCP 100 POS 0.4mm Solder ST SMD T/R; Manufacturer_Name: Hirose; Number of Contacts: 100; Contact Resistance: 90mR; Max Current Rating: 300mA; Voltage Rating: 30V; Connector Type: Receptacle; Mated Stacking Heights: 1.5mm; Datasheet Link: https://www.hirose.com/product/en/download_file/key_name/DF40C-100DS-0.4V%2851%29/category/Drawing%20(2D)/doc_file_id/46856/?file_category_id=6&item_id=06844033451&is_series=; Height: 1.65mm; Manufacturer_Part_Number: DF40C-100DS-0.4V(51); Mouser Part Number: 798-DF40C100DS0.4V51; Mouser Price/Stock: https://www.mouser.co.uk/ProductDetail/Hirose-Connector/DF40C-100DS-04V51?qs=eDUdFcBPps2MEwbnuPvZzQ%3D%3D; Arrow Part Number: DF40C-100DS-0.4V(51); Arrow Price/Stock: https://www.arrow.com/en/products/df40c-100ds-0.4v-51/hirose-electric; Supplier 1: Mouser; Manufacturer: Hirose; Manufacturer Part Number: DF40C-100DS-0.4V(51); RoHS: Yes; Category: Headers and Wire Housings; Stock 1: 10973; Pricing 1: 1=1.75000, 10=1.47000, 50=1.47000, 100=1.37000, 1000=0.97500, 10000=0.86400 (USD); Mount: Surface Mount; Contact Plating: Gold; Contact Material: Bronze; Housing Color: Black; Housing Material: Polymer; Min Operating Temperature: -35°C; Max Operating Temperature: 85°C; Number of Rows: 2; Termination: SMD/SMT; Packaging: Tape and Reel; Package Quantity: 1; Current Rating: 300mA; Number of Positions: 100; Max Voltage Rating (AC): 30V; Gender: Receptacle; Orientation: Straight; Series: DF40; Length: 22.6mm; Pitch: 0.4mm; Depth: 3.38mm; Radiation Hardening: No; REACH SVHC: Unknown; Lead Free: Lead Free; RoHS Compliant: Yes; ComponentLink1URL: https://datasheet.ciiva.com/26948/getdatasheetpartid-441624-26948933.pdf?src-supplier=Verical; ComponentLink1Description: https://datasheet.ciiva.com/26948/getdatasheetpartid-441624-26948933.pdf?src-supplier=Verical; ComponentLink2URL: https://datasheet.ciiva.com/46408/1824826-46408894.pdf?src-supplier=Element14; ComponentLink2Description: https://datasheet.ciiva.com/46408/1824826-46408894.pdf?src-supplier=Element14
footprint CM4-DF40 (DF40)

## DF40HC_3.0_-100DS-0.4V_51
designator J?, comment DF40HC(3.0)-100DS-0.4V(51  Supplier Part Number 1: 798-DF40HC30100DS451  (mechanical)
Conn Board to Board RCP 100 POS 0.4mm Solder ST SMD T/R; Manufacturer_Name: Hirose; Connector Type: Receptacle; Number of Positions: 100; Pitch: 0.016inch; Datasheet Link: https://componentsearchengine.com/Datasheets/1/DF40HC(3.0)-100DS-0.4V(51.pdf; Height: 3.05mm; Manufacturer_Part_Number: DF40HC(3.0)-100DS-0.4V(51; Mouser Part Number: 798-DF40HC30100DS451; Mouser Price/Stock: https://www.mouser.co.uk/ProductDetail/Hirose-Connector/DF40HC30-100DS-04V51/?qs=%252BAZVS4b%2FkgIV%252B3vHYy2dCA%3D%3D; Arrow Part Number: DF40HC(3.0)-100DS-0.4V(51; Arrow Price/Stock: https://www.arrow.com/en/products/df40hc-3.0-100ds-0.4v-51/hirose-electric; Supplier 1: Mouser; Manufacturer: Hirose; Manufacturer Part Number: DF40HC(3.0)-100DS-0.4V(51; RoHS: Yes; Category: Headers and Wire Housings; Stock 1: 1901; Pricing 1: 1=2.50000, 10=2.15000, 50=2.15000, 100=2.00000, 1000=1.45000, 10000=1.29000 (USD); Mount: Surface Mount; Contact Plating: Gold; Package Quantity: 3000; Packaging: Tape and Reel; Number of Rows: 2; ComponentLink1URL: https://datasheet.ciiva.com/13559/ed-df40-20140305-13559540.pdf?src-supplier=Mouser; ComponentLink1Description: https://datasheet.ciiva.com/13559/ed-df40-20140305-13559540.pdf?src-supplier=Mouser; ComponentLink2URL: https://datasheet.ciiva.com/18562/ed-df40-20140305-18562462.pdf?src-supplier=Digi-Key; ComponentLink2Description: https://datasheet.ciiva.com/18562/ed-df40-20140305-18562462.pdf?src-supplier=Digi-Key
footprint CM4-DF40 (DF40)

## ERA-3AEB471V
designator R?, comment 470 1/10W
RES SMD 470 OHM 0.1% 1/10W 0603; MANUFACTURER: Panasonic Electronic Components; MPN: ERA-3AEB471V; GateName_1: G$1; SymbolName_1: RESISTOR; DeviceName: 0603; DPKN: *; POWER: *; VOLTAGE_CONTINUOUS: *; VOLTAGE_MAX: *; RESISTANCE: *
footprint 0603R (ERA-3AEB512V)
pins: 1, 2

## ERA-3AEB512V
designator R?, comment 5.1K 1/10W
RES SMD 5.1K OHM 0.1% 1/10W 0603; MFR PN: ERA-3AEB512V; MFR: Parasonic
footprint 0603R (ERA-3AEB512V)
pins: 1, 2

## ERJ-2RKF4422X
designator R?, comment 44.2K 1/10W
RES SMD 44.2K OHM 1% 1/10W 0402; MANUFACTURER: Panasonic Electronic Components; MPN: ERJ-2RKF4422X; GateName_1: G$1; SymbolName_1: RESISTOR; DeviceName: 0402; DPKN: *; POWER: *; VOLTAGE_CONTINUOUS: *; VOLTAGE_MAX: *; RESISTANCE: *
footprint 0402R
pins: 1, 2

## ERJ-3EKF1002V
designator R?, comment 10K 1/10W
RES SMD 10K OHM 1% 1/10W 0603; MFR PN: ERJ-3EKF1002V; MFR: Parasonic
footprint 0603R (ERA-3AEB512V)
pins: 1, 2

## GRT188R61H225KE13D
designator C?, comment 2.2uF 50V
CAP CER 2.2UF 50V X5R 0603; Tolerance: 10%; Case Code (Metric): 1608; Voltage Rating: 50V; Thickness: 0.035inch; Min Operating Temperature: -55°C; Length: 0.063inch; Case/Package: 0603; Mount: Surface Mount; Max Operating Temperature: 85°C; Capacitance: 2.2uF; Dielectric: X5R; Voltage Rating (DC): 50V; Ratings: AEC-Q200; Width: 0.031inch; Case Code (Imperial): 0603; Packaging: Tape and Reel
footprint CAPACITOR_0603 (Chip Capacitor, 2-Leads, Body 1.60x0.80mm, IPC Medium Density)
pins: 1, 2

## HSMG-C190
designator DS?
Chip LED, Green, 2.2 V, -40 to 85 degC, 2-Pin SMD, RoHS, Tape and Reel; Frequency: 400 KHz; Max Supply Voltage: 5.5 V; Access Time: 3500 ns; Clock Frequency: 100 KHz; Case\Package: SOIC; Density: 32 kb; Nominal Supply Current: 2 mA; Interface: Serial; Min Supply Voltage: 1.7 V; Packaging: Tape and Reel; PackageReference: HSMX-C190; ComponentLink2URL: http://docs.avagotech.com/docs/AV02-0551EN; RoHSCompliant: true; Pins: 8; REACH SVHC: No SVHC; Max Operating Temperature: 85 degC; Width: 4 mm; Radiation Hardening: No; Package Quantity: 3000; ComponentLink3Description: Package Specification; ComponentLink1Description: Manufacturer URL; Min Operating Temperature: -40 degC; PackageDescription: 2-Pin Surface Mount Device, Body 1.6 x 0.8 mm, Height 0.9 mm; Max Clock Frequency: 100 KHz; Height: 1.5 mm; ComponentLink1URL: http://www.avagotech.com/; DatasheetVersion: Mar-12; ComponentLink2Description: Datasheet; Mount: Surface Mount; Length: 5 mm; ComponentLink3URL: http://www.fairchildsemi.com/dwg/MA/MA03D.pdf
footprint AVAG-HSMX-C190_V (SMD, 2-Leads, Body 1.6x0.8mm, Height 0.9mm)
pins: 1 A, 2 K

## HYTECH_LOGO_SMALL
designator H?
footprint LOGO-HYTECH-SMALL
text: HYTECH LOGO

## INDUCTOR
designator L?, comment INDUCTANCE: 3.6μH  (hidden comment: Inductor  LQM18DH100M70 Datasheet   74451133 Datasheet  SRU1408 Datasheet  PA4334 Datasheet  WE-LMHI Datasheet)
MANUFACTURER: Pulse Electronics Power; MPN: PA4334.362NLT; GateName_1: G$1; DeviceSetName: INDUCTOR_?_*; CURRENT_RATED: 1.6A; CURRENT_SATURATION: 1A; DCR: 0.13Ω; DKPN: 553-3508-2-ND; MOPN: 673-PA4334362NLT; TOLERANCE: 20%; SymbolName_1: INDUCTOR; DeviceName: 74451133; LibraryName: HyTechDevices; Package: 74451133
footprint 74451133
pins: 1, 2

## JS202011SCQN
designator SW?
SWITCH SLIDE DPDT 300MA 6V; Switch Function: On-On; Actuator Type: Standard; Switch Travel: 2mm; Actuator Color: Black; Contact Resistance: 70mR; Electrical Life: 5000Cycles; Actuator Material: Nylon; REACH SVHC: No SVHC; Series: JS; Min Operating Temperature: -20°C; Depth: 7.5mm; Housing Material: Nylon; Voltage Rating (DC): 6V; Max Operating Temperature: 85°C; Contact Current Rating: 300mA; Package Quantity: 1; Contact Plating: Silver; Contact Material: Copper Alloy; Throw Configuration: DPDT; Current Rating: 300mA; Orientation: Vertical; Max Current Rating: 300mA; Max Voltage Rating (DC): 6V; Flammability Rating: UL94 V-2; Length: 9mm; Packaging: Tape and Reel; Mount: Surface Mount; Actuator Length: 2mm; Lead Free: Lead Free; Termination: Gull Wing; Radiation Hardening: No
footprint FP-JS202011SCQN-MFG
pins: 1, 2, 3, 4, 5, 6

## JUMPER_?_1210
designator JP?, comment CRCW12100000Z0EA  (value not drawn)
RES JUMPER SMD 0 OHM JUMPER 1/2W 1210; MANUFACTURER: Vishay Dale; GateName_1: G$1; SymbolName_1: JUMPER; MPN: CRCW12100000Z0EA
footprint FP-RMCF1210-IPC_B
pins: 1, 2

## JUMPER_?_*
designator JP?, comment 2 Pin Connector  (value not drawn)
MANUFACTURER: Sullins Connector Solutions; MPN: PRPC002SAAN-RC; GateName_1: G$1; SymbolName_1: JUMPER; DeviceSetName: JUMPER_?_*; DKPN: S1011EC-02-ND; LibraryName: HyTechDevices; Package: 1X02
footprint 1X02_3D
pins: 1, 2

## JUMPER_?_*NANOFIT_SMD_VERTICAL
designator JP?, comment 2 Pin Connector  (value not drawn)
MANUFACTURER: Molex; MPN: 105429-1304; MPN: 105431-2302; GateName_1: G$1; SymbolName_1: JUMPER; DeviceName: NANOFIT_SMD_VERTICAL; DeviceSetName: JUMPER_?_*; DKPN: 900-1054291304TR-ND; MOPN: 538-105429-1304; DKPN: 900-1054312302TR-ND; MOPN: 538-105431-2302; LibraryName: HyTechDevices; Package: MOLEX_NANOFIT_SMD_VERTICAL_02
footprint 105431YY02
pins: 1, 2

## JUMPER_?_SMD_2POS
designator JP?, comment TSM-102-01-L-SV  (value not drawn)
CONN HEADER SMD 2POS 2.54MM; MANUFACTURER: Samtec Inc.; GateName_1: G$1; SymbolName_1: JUMPER; MPN: TSM-102-01-L-SV
footprint FP-TSM-102-01-L-SV-P-TR-MFG
pins: 1, 2

## L78M24CV
designator U?
Positive Voltage Regulator, 15V, 3-Pin TO-220; ComponentLink2URL: http://www.st.com/internet/com/TECHNICAL_RESOURCES/TECHNICAL_LITERATURE/DATASHEET/CD00000447.pdf; ComponentLink3Description: Package Specification; DatasheetVersion: 1/11/2010; ComponentLink2Description: Datasheet; PackageVersion: ver3.0; ComponentLink1URL: http://www.st.com; ComponentLink3URL: http://www.st.com/internet/com/TECHNICAL_RESOURCES/TECHNICAL_LITERATURE/PACKAGE_INFORMATION/CD00004649.pdf; PackageReference: TO220; ComponentLink1Description: Manufacturer URL; PackageDescription: TO, Thru-Hole, Vertical, Heatsink Mounted; 3 In-Line Leads; Pitch 2.54 mm
footprint TO-220
pins: 1 IN (power), 2 GND (power), 3 OUT (power), 4 EP (power)

## LED_?_*0603
designator D?, comment LED 0603  Blue  Green  Orange  Red  White  Yellow    2835 (Series not on Digikey)  Lumiled LUXEON 2835 Color Line  (value not drawn)
MANUFACTURER: Kingbright; MPN: APT1608VBC/D; MPN: APT1608ZGCK; MPN: APT1608SECK; MPN: APT1608SECK/J3-PRV; MANUFACTURER: Bivar Inc.; MPN: SM0603UWC; MPN: APT1608SYCK/J3-PRV; SymbolName_1: DIODE_LED; DeviceName: 0603; DeviceSetName: LED_?_*; DKPN: 754-1789-1-ND; MOPN: 604-APT1608VBC/D; DKPN: 754-1790-1-ND; MOPN: 604-APT1608ZGCK; DKPN: 754-1120-1-ND; MOPN: 604-APT1608SECK; DKPN: 754-1786-1-ND; MOPN: 604-APT1608SECKJ3PRV; DKPN: SM0603UWC-ND; MOPN: 749-SM0603UWC; DKPN: 754-1788-1-ND; MOPN: 604-APT1608SYCK/J3-PRV; GateName_1: LED; LibraryName: HyTechDevices; Package: 0603-LED; COLOR: Blue; COLOR: Green; COLOR: Orange; COLOR: Red; COLOR: White; COLOR: Yellow
footprint 0603-LED
pins: 1 C, 2 A

## LTST-C190TBKT
designator DS?
LED Uni-Color Blue, 76 mW, 20 mA, -20 to 80 degC, 2-Pin SMD, RoHS, Tape and Reel; Manufacturer: Lite-On; Forward Voltage: 2.8V; Lens Style: Diffused; Luminous Intensity: 28mcd; Forward Current: 20mA; Viewing Angle: 130degrees; Nominal Vf: 3.3V; Packaging: TapeandReel; Min Operating Temperature: -20°C; Illumination Colour: Blue; Package Quantity: 3000; Pins: 2; Mounting Technology: SM; Package Reference: C190TBKT-2; Package Description: 2-Pin Surface Mount Device, Body 1.6 x 0.8 mm; RoHS Compliant: True; Datasheet URL: http://optoelectronics.liteon.com/upload/download/DS-22-99-0224/S_110_LTST-C190TBKT(0630).pdf; Datasheet Version: Rev. K, 08/2011; Manufacturer URL: http://www.us.liteon.com/; Colour: Blue; Case/Package: 0603; Max Operating Temperature: 80°C
footprint LTST-C190TBKT-2_V (SMD, 2-Leads, Body 1.6x0.8mm)
pins: 1 A, 2 K

## NUP2105LT1G
designator D?
Dual Line CAN Bus Protector, 3-Pin SOT-23, Pb-Free, Tape and Reel; Manufacturer: On Semiconductor; IR Max (uA): 0.1; Number of Lines: 2; Direction: Bidirectional; C Max (pF): 30; PPK Max (W): 350; V(BR) Min (V): 26.2; ComponentLink3URL: http://www.onsemi.cn/pub_link/Collateral/318-08.PDF; Mounting Technology: Surface Mount; ComponentLink2Description: Datasheet; PartNumber: NUP2105LT1G; ComponentLink1URL: http://www.onsemi.com/; PackageVersion: Rev. AP, 11/2009; DatasheetVersion: Rev. 5; RoHS: Pb-Free; PackageReference: SOT-23-3-318-08; ComponentLink2URL: http://www.onsemi.cn/pub_link/Collateral/NUP2105L-D.PDF; ComponentLink1Description: Manufacturer URL; PackageDescription: 3-Pin Small Outline Transistor, Body 2.92 x 1.3 mm, Pitch 0.95 mm; Packing: Tape and Reel; ComponentLink3Description: Package Specification
footprint ONSC-SOT-23-3-318-08_V (SOT23, 3-Leads, Body 2.92x1.3mm, Pitch 0.95mm)
pins: 1 K, 2 K, 3 K

## P783F-Q24-S5-S
designator PS?
DC DC CONVERTER 5V 15W; MP: P783F-Q24-S5-S; MF: {'manufacturer': u'CUI'}; Availability: Unavailable; Package: None; Price: None; Value: *
footprint CONV_P783F-Q24-S5-S
pins: 1 CTRL (power), 2 VIN (power), 3 VIN (power), 4 VIN (power), 5 GND (power), 6 GND (power), 7 GND (power), 8 GND (power), 9 +VO (power), 10 +VO (power), 11 +VO (power), 12 TRIM

## PMEG045T050EPDZ
designator D?
DIODE SCHOTTKY 45V 5A CFP15; Manufacturer_Name: Comchip Technology; Manufacturer_Part_Number: CDBA140SL-HF; Datasheet Link: http://www.mouser.com/ds/2/80/CDBA140SL-HF RevC729463-766397.pdf; Height: 2.5mm; Mouser Part Number: 750-CDBA140SL-HF; Mouser Price/Stock: https://www.mouser.co.uk/ProductDetail/Comchip-Technology/CDBA140SL-HF?qs=2qJf6qQ4IOIs6CdtgpGzGA%3D%3D; Arrow Part Number: CDBA140SL-HF; Arrow Price/Stock: https://www.arrow.com/en/products/cdba140sl-hf/comchip-technology
footprint PMEG060V100EPDZ
pins: 1 A, 2 A, 3 K

## PTVS1-029C-H
designator D?
TVS DIODE 29VWM 34VC 2DFN; Manufacturer_Name: Bourns; Datasheet Link: https://g.componentsearchengine.com/Datasheets/0/16509875.pdf; Height: 2.6mm; Manufacturer_Part_Number: PTVS1-029C-H; Mouser Part Number: 652-PTVS1-029C-H; Mouser Price/Stock: https://www.mouser.co.uk/ProductDetail/Bourns/PTVS1-029C-H?qs=vvQtp7zwQdNgKzZ3txsBHg%3D%3D; Arrow Part Number: PTVS1-029C-H; Arrow Price/Stock: https://www.arrow.com/en/products/ptvs1-029c-h/bourns?region=nac
footprint PTVS1029CH
pins: 1, 2

## RC0402FR-07383KL
designator R?, comment 383K 1/16W
RES SMD 383K OHM 1% 1/16W 0402; MANUFACTURER: YAGEO; MPN: RC0402FR-07383KL; GateName_1: G$1; SymbolName_1: RESISTOR; DeviceName: 0402; DPKN: *; POWER: *; VOLTAGE_CONTINUOUS: *; VOLTAGE_MAX: *; RESISTANCE: *
footprint 0402R
pins: 1, 2

## RC0603JR-13330RL
designator R?, comment 330 1/10W
RES SMD 330 OHM 5% 1/10W 0603; MANUFACTURER: YAGEO; MPN: RC0603JR-13330RL; GateName_1: G$1; SymbolName_1: RESISTOR; DeviceName: 0603; DPKN: *; POWER: *; VOLTAGE_CONTINUOUS: *; VOLTAGE_MAX: *; RESISTANCE: *
footprint 0603R (ERA-3AEB512V)
pins: 1, 2

## RESISTOR_0603
designator R1, comment Resistor 0603  (value not drawn)
RES SMD CUSTOM 0603; GateName_1: G$1; DeviceName: 0603; SymbolName_1: RESISTOR; DPKN: *; MANUFACTURER: *; MOPN: *; MPN: *; POWER: *; VOLTAGE_CONTINUOUS: *; VOLTAGE_MAX: *; RESISTANCE: *
footprint 0603R (ERA-3AEB512V)
pins: 1, 2

## RMCF0603FT60R4
designator R?, comment 60.4 1/10W
RES SMD 60.4 OHM 1% 1/10W 0603; MANUFACTURER: Stackpole Electronics Inc; MPN: RMCF0603FT60R4; GateName_1: G$1; SymbolName_1: RESISTOR; DeviceName: 0603; DPKN: *; POWER: *; VOLTAGE_CONTINUOUS: *; VOLTAGE_MAX: *; RESISTANCE: *
footprint 0603R (ERA-3AEB512V)
pins: 1, 2

## RMCF0603FT604R
designator R?, comment 604 1/10W
RES SMD 604 OHM 1% 1/10W 0603; MANUFACTURER: Stackpole Electronics Inc; MPN: RMCF0603FT604R; GateName_1: G$1; SymbolName_1: RESISTOR; DeviceName: 0603; DPKN: *; POWER: *; VOLTAGE_CONTINUOUS: *; VOLTAGE_MAX: *; RESISTANCE: *
footprint 0603R (ERA-3AEB512V)
pins: 1, 2

## RT0603BRD072K2L
designator R?, comment 2.2k 1/10W
RES SMD 2.2K OHM 0.1% 1/10W 0603; MANUFACTURER: YAGEO; MPN: RT0603BRD072K2L; GateName_1: G$1; SymbolName_1: RESISTOR; DeviceName: 0603; DPKN: *; POWER: *; VOLTAGE_CONTINUOUS: *; VOLTAGE_MAX: *; RESISTANCE: *
footprint 0603R (ERA-3AEB512V)
pins: 1, 2

## RT0603BRD07160KL
designator R?, comment 160K 1/10W
RES SMD 160K OHM 0.1% 1/10W 0603; MANUFACTURER: Stackpole Electronics Inc; MPN: RMCF0603FT604R; GateName_1: G$1; SymbolName_1: RESISTOR; DeviceName: 0603; DPKN: *; POWER: *; VOLTAGE_CONTINUOUS: *; VOLTAGE_MAX: *; RESISTANCE: *
footprint 0603R (ERA-3AEB512V)
pins: 1, 2

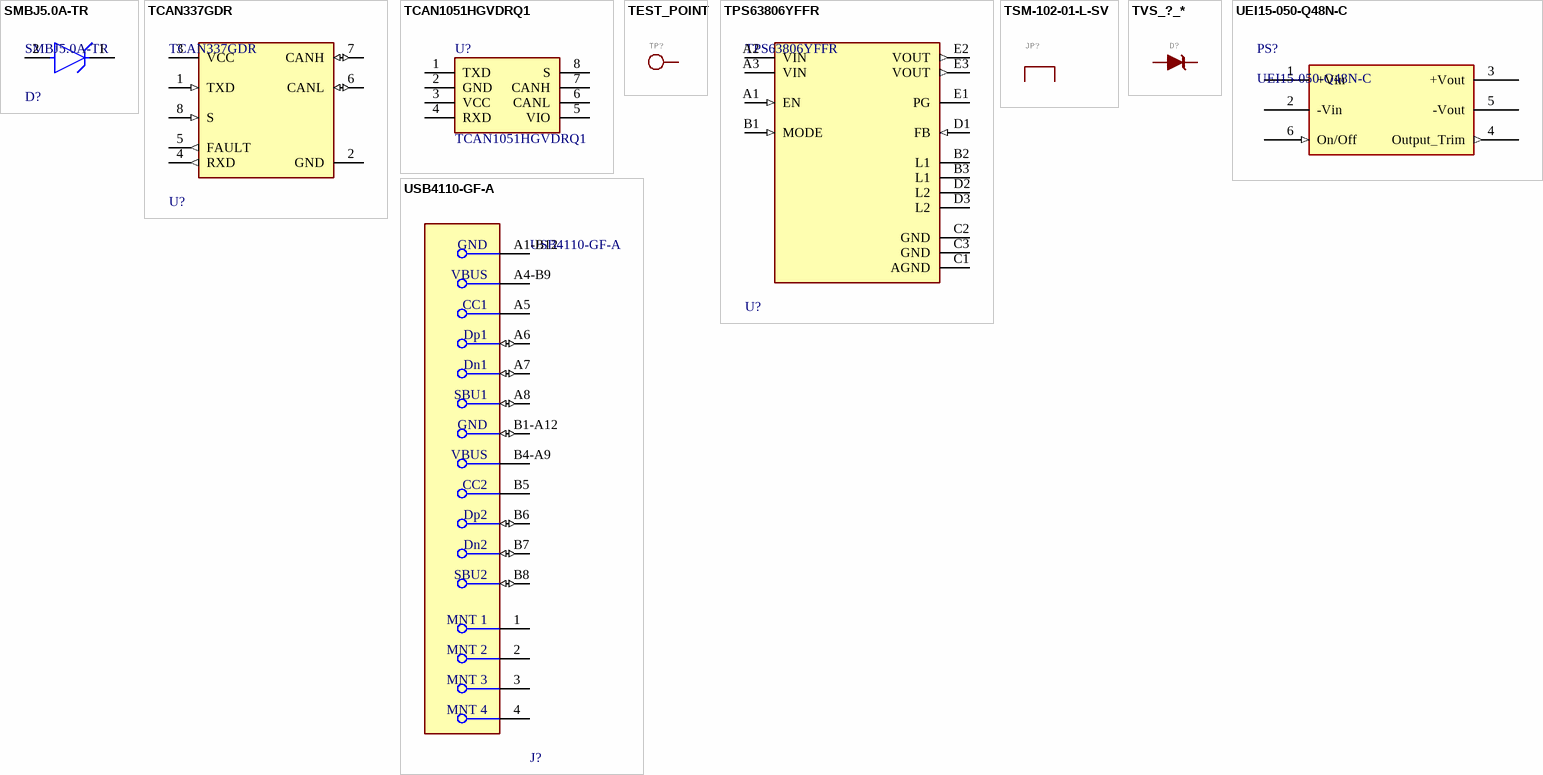
[diagram p3: symbols SMBJ5.0A-TR to USB4110-GF-A]

## SMBJ5.0A-TR
designator D?
TVS DIODE 5V 13.4V SMB; Manufacturer: STMicroelectronics; Number Of Channels: 1; Peak Pulse Power: 600W; Clamping Voltage: 14.4V; Standoff Height: 0.05mm; Peak Pulse Current: 275A; Max Junction Temp: +150°C; Direction: Unidirectional; Breakdown Voltage: 6.4V; Device Class L3: unset; Mouser Description: SMBJ Series 600 W 5 V Uni Directional SMT TVS Diode - DO-214AA; Automotive: No; Lead Free: Yes; ComponentLink2URL: https://www.st.com/resource/en/datasheet/smbj.pdf; Package: SMB; Reverse Standoff Voltage: 5V; Device Class L1: Circuit Protection; RoHS: TRUE; Temperature Range Low: -55°C; Category: Diode; Manufacturer Part Number: SMBJ5.0A-TR; Digikey Description: TVS DIODE 5V 13.4V SMB; Height: 2.65mm; Temperature Range High: +150°C; Octopart: https://octopart.com/smbj5.0a-tr-stmicroelectronics-347079; Device Class L2: TVS Diodes; ComponentLink2Description: Datasheet; Temperature: -55°C to +150°C
footprint FP-SMB-MFG
pins: 1 K, 2 A

## TCAN337GDR
designator U?
IC CANbus TRANSCEIVER 1/1 8SOIC; MFR: Texas Instruments; MFR PN: TCAN337GDR
footprint 8-SOIC (TCAN337GDR / FP-D0008A-IPC_B)
pins: 1 TXD (in), 2 GND (power), 3 VCC (power), 4 RXD (out), 5 FAULT (out), 6 CANL (io), 7 CANH (io), 8 S (in)

## TCAN1051HGVDRQ1
designator U?
IC TRANSCEIVER HALF 1/1 8SOIC; Manufacturer_Name: Texas Instruments; Datasheet Link: http://www.ti.com/lit/gpn/TCAN1051HGV-Q1; Height: 1.75mm; Manufacturer_Part_Number: TCAN1051HGVDRQ1; Mouser Part Number: 595-TCAN1051HGVDRQ1; Mouser Price/Stock: https://www.mouser.co.uk/ProductDetail/Texas-Instruments/TCAN1051HGVDRQ1?qs=dSktwyqbRaUv%252Bzz8wwNi2g%3D%3D; Arrow Part Number: TCAN1051HGVDRQ1; Arrow Price/Stock: https://www.arrow.com/en/products/tcan1051hgvdrq1/texas-instruments
footprint SOIC127P600X175-8N
pins: 1 TXD, 2 GND, 3 VCC, 4 RXD, 5 VIO, 6 CANL, 7 CANH, 8 S

## TEST_POINT
designator TP?, comment Test Point for Probing  (value not drawn)
MANUFACTURER: Keystone Electronics; MPN: 5015; GateName_1: G$1; SymbolName_1: TEST_POINT; DKPN: 36-5015CT-ND; MOPN: 534-5015; LibraryName: HyTechDevices; DeviceSetName: TEST_POINT; Package: 5015
footprint 5015
pins: 1

## TPS63806YFFR
designator U?
Switching Regulator, Current-mode, 2.5A, 3100kHz Switching Freq-Max, PBGA15; Manufacturer: Texas Instruments; Supplier: Mouser; Supplier Part Number: 595-TPS63806YFFR; Manufacturer Part Number: TPS63806YFFR; RoHS: Yes; Category: Voltage Regulators - Switching; Stock: 11286; Pricing: 1=2.47, 10=2.22, 25=2.1, 50=2.1, 100=1.8, 250=1.7, 500=1.5, 1000=1.33, 3000=1.25, 6000=1.22, 10000=1.22 (USD); ComponentLink1URL: https://www.ti.com:443/lit/ds/symlink/tps63805.pdf?src-supplier=IHS+Markit; ComponentLink1Description: https://www.ti.com:443/lit/ds/symlink/tps63805.pdf?src-supplier=IHS+Markit
footprint FP-YFF0015-IPC_B
footprint FP-YFF0015-IPC_A
footprint FP-YFF0015-IPC_C
footprint FP-YFF0015-MFG
pins: A1 EN (in), A2 VIN (power), A3 VIN (power), B1 MODE (in), B2 L1, B3 L1, C1 AGND (power), C2 GND (power), C3 GND (power), D1 FB (in), D2 L2, D3 L2, E1 PG (oc), E2 VOUT (out), E3 VOUT (out)

## TSM-102-01-L-SV
designator JP?  (value not drawn)
CONN HEADER SMD 2POS 2.54MM; MANUFACTURER: Samtec Inc.; MPN: PRPC002SAAN-RC; GateName_1: G$1; SymbolName_1: JUMPER; MOPN: TSM-102-01-L-SV
footprint 1X02_3D
pins: 1, 2

## TVS_?_*
designator D?, comment TVS Diode  GSOT Datasheet  (value not drawn)
MANUFACTURER: Vishay General Semiconductor - Diodes Division; MPN: GSOT15-E3-08; MPN: GSOT04-E3-08; MPN: GSOT05-E3-08; MPN: GSOT08-E3-08; GateName_1: G$1; SymbolName_1: DIODE_TVS_UNIDIRECTIONAL; DeviceSetName: TVS_?_*; DKPN: GSOT15-E3-08CT-ND; MOPN: 78-GSOT15-E3-08; VOLTAGE: 15V; DKPN: GSOT04-E3-08CT-ND; MOPN: 78-GSOT04-E3-08; VOLTAGE: 4V; DKPN: GSOT05-E3-08TR-ND; MOPN: 78-GSOT05-E3-08; VOLTAGE: 5V; DKPN: GSOT08-E3-08TR-ND; MOPN: 78-GSOT08-E3-08; VOLTAGE: 8V; LibraryName: HyTechDevices; Package: SOT-23
footprint SOT-23
pins: 1 A, 3 C

## UEI15-050-Q48N-C
designator PS?
DC DC CONVERTER 5V 15W; Mfr_Name: Murata; Manufacturer_Part_Number: UEI15-050-Q12P-C; Copyright: Copyright (C) 2023 Ultra Librarian. All rights reserved.; RefDes: RefDes; Type: DEV
footprint UEI15-050-Q12P-C_MUR
pins: 1 +Vin (power), 2 -Vin (power), 3 +Vout (power), 4 Output_Trim (out), 5 -Vout (power), 6 On/Off (in)